# Altium footprint library rest.PCBLIB: 42 footprints (part 3 of 3)
Each footprint in its own frame and in the unit in brackets; x right, y up, seen from the top. Pads: shape width x height; smd on the part's side, far side on the other; paste and mask are expansions set on the pad; w line width, h text height; cw(c..) or ccw(c..) is an arc to the next point about the centre after c.
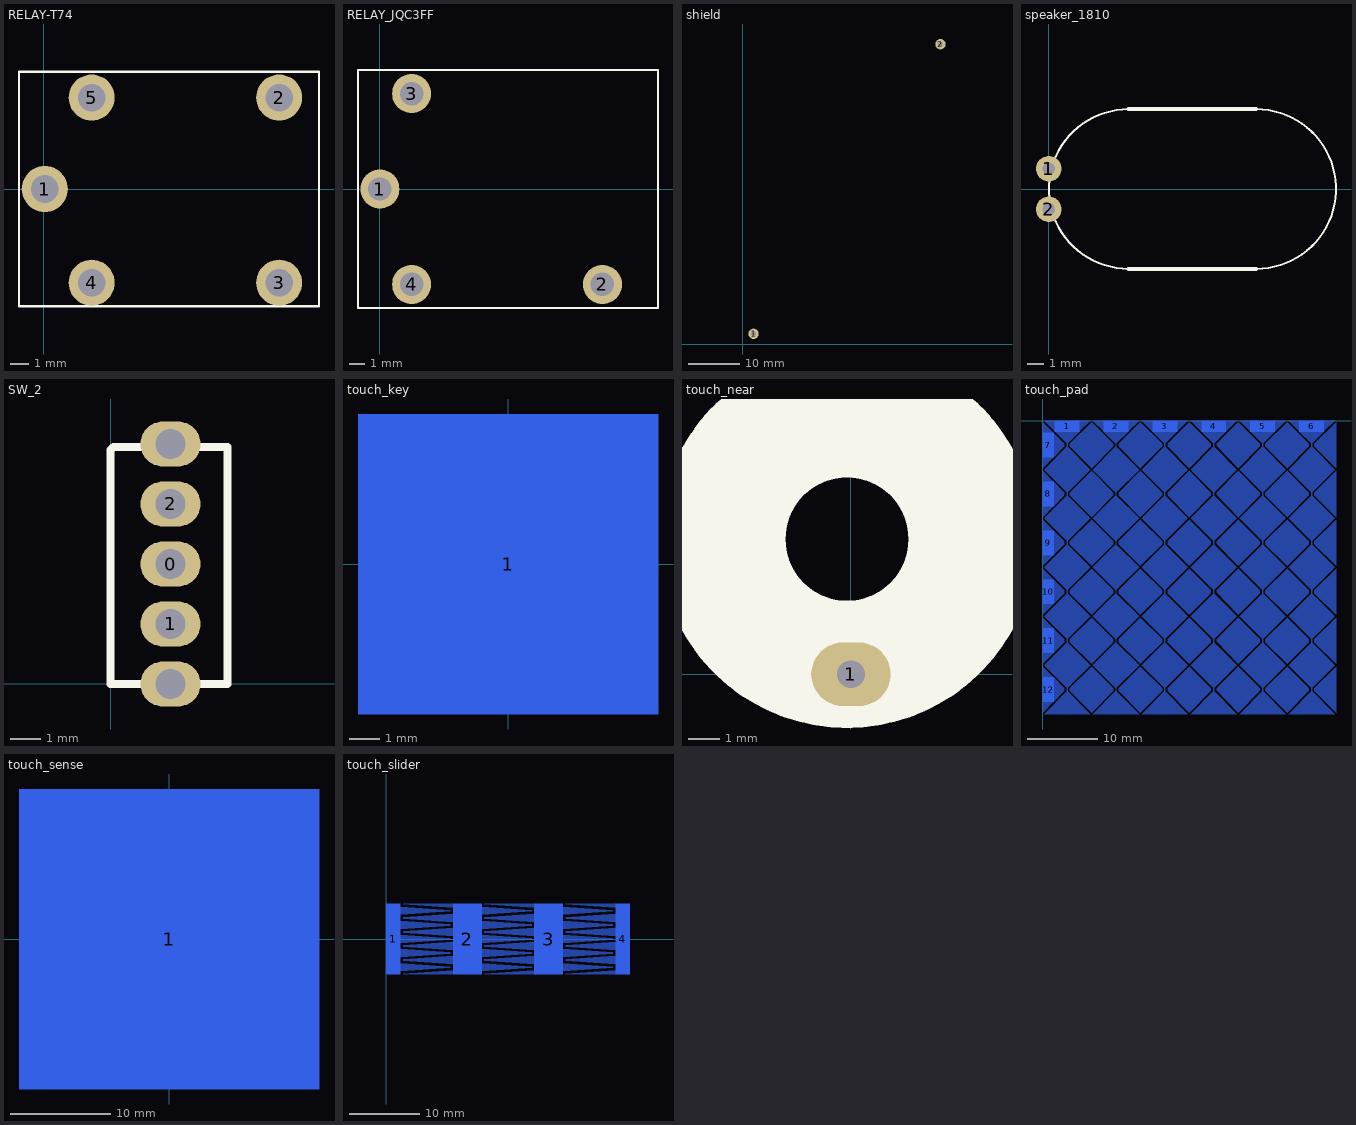
[diagram p2: the footprints below, top view; thin cyan lines are the x and y axes]

## RELAY-T74 [mm]
pads (5):
  round 2.5 hole 1.5: 1(0.051,0) 2(12.751,4.953) 3(12.751,-5.08) 4(2.591,-5.08) 5(2.591,4.953)
TopOverlay:
  lines w0.127: -1.346,-6.35 -1.346,6.35 14.91,6.35 14.91,-6.35 -1.346,-6.35

## RELAY_JQC3FF [mm]
pads (4):
  round 2.5 hole 1.5: 1(0,0) 2(14.224,-6.096) 3(2.032,6.096) 4(2.032,-6.096)
TopOverlay:
  lines w0.127: -1.397,-7.62 17.78,-7.62 17.78,7.62 -1.397,7.62 -1.397,-7.62

## shield [mm]
pads (2):
  round 2 hole 1: 1(2.032,2.032) 2(38.1,57.912)

## speaker_1810 [mm]
pads (2):
  round 1.6 hole 0.8: 1(0,1.27) 2(0,-1.27)
TopOverlay:
  lines w0.127: 5,-5 cw(c5,0) 5,5 ; 13,-5 ccw(c13,0) 13,5
  lines w0.254: 5,-5 13,-5 ; 5,5 13,5
3D body: height 6, standoff 2, extent 0,-5 18,5

## SW_2 [mm]
pads (5):
  oval 2x1.5 hole 1: 0(2,4) 1(2,2) 2(2,6) ""(2,0) ""(2,8)
TopOverlay:
  lines w0.254: 0,0 3.9,0 3.9,7.9 0.1,7.9 0,7.8 0,0

## touch_key [mm]
pads (1):
  rect 10x10 smd far side: 1(0,0)

## touch_near [mil]
pads (1):
  oval 100x80 hole 35: 1(0,0)
TopOverlay:
  circle w160: c-5,170 r157.48

## touch_pad [mm]
pads (12):
  rect 3.5x1.6 smd far side: 1(3.5,-0.8) 2(10.5,-0.8) 3(17.5,-0.8) 4(24.5,-0.8) 5(31.5,-0.8) 6(38.5,-0.8)
  rect 1.6x3.5 smd far side: 7(0.8,-3.5) 8(0.8,-10.5) 9(0.8,-17.5) 10(0.8,-24.5) 11(0.8,-31.5) 12(0.8,-38.5)
BottomLayer:
  rectangle: 3.4,-38.9 3.6,-38.1
  rectangle: 3.4,-31.9 3.6,-31.1
  rectangle: 3.4,-24.9 3.6,-24.1
  rectangle: 3.4,-17.9 3.6,-17.1
  rectangle: 3.4,-10.9 3.6,-10.1
  rectangle: 3.4,-3.9 3.6,-3.1
  rectangle: 10.4,-3.9 10.6,-3.1
  rectangle: 17.4,-3.9 17.6,-3.1
  rectangle: 24.4,-3.9 24.6,-3.1
  rectangle: 31.4,-3.9 31.6,-3.1
  rectangle: 38.4,-3.9 38.6,-3.1
  rectangle: 38.4,-10.9 38.6,-10.1
  rectangle: 38.4,-17.9 38.6,-17.1
  rectangle: 38.4,-24.9 38.6,-24.1
  rectangle: 38.4,-31.9 38.6,-31.1
  rectangle: 38.4,-38.9 38.6,-38.1
  rectangle: 31.4,-38.9 31.6,-38.1
  rectangle: 31.4,-31.9 31.6,-31.1
  rectangle: 31.4,-24.9 31.6,-24.1
  rectangle: 31.4,-17.9 31.6,-17.1
  rectangle: 31.4,-10.9 31.6,-10.1
  rectangle: 24.4,-10.9 24.6,-10.1
  rectangle: 24.4,-17.9 24.6,-17.1
  rectangle: 24.4,-24.9 24.6,-24.1
  rectangle: 24.4,-31.9 24.6,-31.1
  rectangle: 24.4,-38.9 24.6,-38.1
  rectangle: 17.4,-38.9 17.6,-38.1
  rectangle: 17.4,-31.9 17.6,-31.1
  rectangle: 17.4,-24.9 17.6,-24.1
  rectangle: 17.4,-17.9 17.6,-17.1
  rectangle: 17.4,-10.9 17.6,-10.1
  rectangle: 10.4,-10.9 10.6,-10.1
  rectangle: 10.4,-17.9 10.6,-17.1
  rectangle: 10.4,-24.9 10.6,-24.1
  rectangle: 10.4,-31.9 10.6,-31.1
  rectangle: 10.4,-38.9 10.6,-38.1
  region: 1.7,-1.5 5.3,-1.5 3.5,-3.3
  region: 5.2,-1.6 5.2,0 6.8,0
  region: 0.2,0 1.8,0 1.8,-1.6
  region: 42,-35.2 42,-41.8 38.9,-38.7 38.9,-38.3
  region: 31.9,-38.7 31.9,-38.3 35,-35.2 38.1,-38.3 38.1,-38.7 35,-41.8
  region: 24.9,-38.6 24.9,-38.3 28,-35.2 31.1,-38.3 31.1,-38.7 28,-41.8
  region: 17.9,-38.7 17.9,-38.3 21,-35.2 24.1,-38.3 24.1,-38.7 21,-41.8
  region: 10.9,-38.7 10.9,-38.3 14,-35.2 17.1,-38.3 17.1,-38.7 14,-41.8
  region: 3.9,-38.3 7,-35.2 10.1,-38.3 10.1,-38.7 7,-41.8 3.9,-38.7
  region: 42,-28.2 42,-34.8 38.9,-31.7 38.9,-31.3
  region: 31.9,-31.7 31.9,-31.3 35,-28.2 38.1,-31.3 38.1,-31.7 35,-34.8
  region: 24.9,-31.6 24.9,-31.3 28,-28.2 31.1,-31.3 31.1,-31.7 28,-34.8
  region: 17.9,-31.7 17.9,-31.3 21,-28.2 24.1,-31.3 24.1,-31.7 21,-34.8
  region: 10.9,-31.7 10.9,-31.3 14,-28.2 17.1,-31.3 17.1,-31.7 14,-34.8
  region: 3.9,-31.3 7,-28.2 10.1,-31.3 10.1,-31.7 7,-34.8 3.9,-31.7
  region: 42,-21.2 42,-27.8 38.9,-24.7 38.9,-24.3
  region: 31.9,-24.7 31.9,-24.3 35,-21.2 38.1,-24.3 38.1,-24.7 35,-27.8
  region: 24.9,-24.6 24.9,-24.3 28,-21.2 31.1,-24.3 31.1,-24.7 28,-27.8
  region: 17.9,-24.7 17.9,-24.3 21,-21.2 24.1,-24.3 24.1,-24.7 21,-27.8
  region: 10.9,-24.7 10.9,-24.3 14,-21.2 17.1,-24.3 17.1,-24.7 14,-27.8
  region: 3.9,-24.3 7,-21.2 10.1,-24.3 10.1,-24.7 7,-27.8 3.9,-24.7
  region: 42,-14.2 42,-20.8 38.9,-17.7 38.9,-17.3
  region: 31.9,-17.7 31.9,-17.3 35,-14.2 38.1,-17.3 38.1,-17.7 35,-20.8
  region: 24.9,-17.6 24.9,-17.3 28,-14.2 31.1,-17.3 31.1,-17.7 28,-20.8
  region: 17.9,-17.7 17.9,-17.3 21,-14.2 24.1,-17.3 24.1,-17.7 21,-20.8
  region: 10.9,-17.7 10.9,-17.3 14,-14.2 17.1,-17.3 17.1,-17.7 14,-20.8
  region: 3.9,-17.3 7,-14.2 10.1,-17.3 10.1,-17.7 7,-20.8 3.9,-17.7
  region: 42,-7.2 42,-13.8 38.9,-10.7 38.9,-10.3
  region: 31.9,-10.7 31.9,-10.3 35,-7.2 38.1,-10.3 38.1,-10.7 35,-13.8
  region: 24.9,-10.6 24.9,-10.3 28,-7.2 31.1,-10.3 31.1,-10.7 28,-13.8
  region: 17.9,-10.7 17.9,-10.3 21,-7.2 24.1,-10.3 24.1,-10.7 21,-13.8
  region: 10.9,-10.7 10.9,-10.3 14,-7.2 17.1,-10.3 17.1,-10.7 14,-13.8
  region: 3.9,-10.3 7,-7.2 10.1,-10.3 10.1,-10.7 7,-13.8 3.9,-10.7
  region: 41.8,-42 35.2,-42 38.5,-38.7
  region: 34.8,-42 28.2,-42 31.5,-38.7
  region: 27.8,-42 21.2,-42 24.5,-38.7
  region: 20.8,-42 14.2,-42 17.5,-38.7
  region: 13.8,-42 7.2,-42 10.5,-38.7
  region: 6.8,-42 0.2,-42 3.5,-38.7
  region: 38.5,-31.7 41.8,-35 38.5,-38.3 35.2,-35
  region: 31.5,-31.7 34.8,-35 31.5,-38.3 28.2,-35
  region: 24.5,-31.7 27.8,-35 24.5,-38.3 21.2,-35
  region: 17.5,-31.7 20.8,-35 17.5,-38.3 14.2,-35
  region: 10.5,-31.7 13.8,-35 10.5,-38.3 7.2,-35
  region: 3.5,-31.7 6.8,-35 3.5,-38.3 0.2,-35
  region: 3.5,-24.7 6.8,-28 3.5,-31.3 0.2,-28
  region: 10.5,-24.7 13.8,-28 10.5,-31.3 7.2,-28
  region: 17.5,-24.7 20.8,-28 17.5,-31.3 14.2,-28
  region: 24.5,-24.7 27.8,-28 24.5,-31.3 21.2,-28
  region: 31.5,-24.7 34.8,-28 31.5,-31.3 28.2,-28
  region: 38.5,-24.7 41.8,-28 38.5,-31.3 35.2,-28
  region: 3.5,-17.7 6.8,-21 3.5,-24.3 0.2,-21
  region: 10.5,-17.7 13.8,-21 10.5,-24.3 7.2,-21
  region: 17.5,-17.7 20.8,-21 17.5,-24.3 14.2,-21
  region: 24.5,-17.7 27.8,-21 24.5,-24.3 21.2,-21
  region: 31.5,-17.7 34.8,-21 31.5,-24.3 28.2,-21
  region: 38.5,-17.7 41.8,-21 38.5,-24.3 35.2,-21
  region: 3.5,-10.7 6.8,-14 3.5,-17.3 0.2,-14
  region: 10.5,-10.7 13.8,-14 10.5,-17.3 7.2,-14
  region: 17.5,-10.7 20.8,-14 17.5,-17.3 14.2,-14
  region: 24.5,-10.7 27.8,-14 24.5,-17.3 21.2,-14
  region: 31.5,-10.7 34.8,-14 31.5,-17.3 28.2,-14
  region: 38.5,-10.7 41.8,-14 38.5,-17.3 35.2,-14
  region: 38.5,-3.7 41.8,-7 38.5,-10.3 35.2,-7
  region: 31.5,-3.7 34.8,-7 31.5,-10.3 28.2,-7
  region: 24.5,-3.7 27.8,-7 24.5,-10.3 21.2,-7
  region: 17.5,-3.7 20.8,-7 17.5,-10.3 14.2,-7
  region: 10.5,-3.7 13.8,-7 10.5,-10.3 7.2,-7
  region: 3.5,-3.7 6.8,-7 3.5,-10.3 0.2,-7
  region: 3.9,-3.3 7,-0.2 10.1,-3.3 10.1,-3.7 7,-6.8 3.9,-3.7
  region: 10.9,-3.7 10.9,-3.3 14,-0.2 17.1,-3.3 17.1,-3.7 14,-6.8
  region: 17.9,-3.7 17.9,-3.3 21,-0.2 24.1,-3.3 24.1,-3.7 21,-6.8
  region: 24.9,-3.6 24.9,-3.3 28,-0.2 31.1,-3.3 31.1,-3.7 28,-6.8
  region: 31.9,-3.7 31.9,-3.3 35,-0.2 38.1,-3.3 38.1,-3.7 35,-6.8
  region: 42,-0.2 42,-6.8 38.9,-3.7 38.9,-3.3
  region: 7.2,0 8.8,0 8.8,-1.6
  region: 12.2,-1.6 12.2,0 13.8,0
  region: 8.7,-1.5 12.3,-1.5 10.5,-3.3
  region: 14.2,0 15.8,0 15.8,-1.6
  region: 19.2,-1.6 19.2,0 20.8,0
  region: 15.7,-1.5 19.3,-1.5 17.5,-3.3
  region: 21.2,0 22.8,0 22.8,-1.6
  region: 26.2,-1.6 26.2,0 27.8,0
  region: 22.7,-1.5 26.3,-1.5 24.5,-3.3
  region: 28.2,0 29.8,0 29.8,-1.6
  region: 33.2,-1.6 33.2,0 34.8,0
  region: 29.7,-1.5 33.3,-1.5 31.5,-3.3
  region: 35.2,0 36.8,0 36.8,-1.6
  region: 40.2,-1.6 40.2,0 41.8,0
  region: 36.7,-1.5 40.3,-1.5 38.5,-3.3
  region: 0,-41.8 1.6,-40.2 0,-40.2
  region: 1.6,-36.8 0,-35.2 0,-36.8
  region: 1.5,-40.3 3.1,-38.7 3.1,-38.3 1.5,-36.7
  region: 1.5,-5.3 3.1,-3.7 3.1,-3.3 1.5,-1.7
  region: 1.6,-1.8 0,-0.2 0,-1.8
  region: 0,-6.8 1.6,-5.2 0,-5.2
  region: 1.5,-12.3 3.1,-10.7 3.1,-10.3 1.5,-8.7
  region: 1.6,-8.8 0,-7.2 0,-8.8
  region: 0,-13.8 1.6,-12.2 0,-12.2
  region: 1.5,-19.3 3.1,-17.7 3.1,-17.3 1.5,-15.7
  region: 1.6,-15.8 0,-14.2 0,-15.8
  region: 0,-20.8 1.6,-19.2 0,-19.2
  region: 1.5,-26.3 3.1,-24.7 3.1,-24.3 1.5,-22.7
  region: 1.6,-22.8 0,-21.2 0,-22.8
  region: 0,-27.8 1.6,-26.2 0,-26.2
  region: 1.5,-33.3 3.1,-31.7 3.1,-31.3 1.5,-29.7
  region: 1.6,-29.8 0,-28.2 0,-29.8
  region: 0,-34.8 1.6,-33.2 0,-33.2

## touch_sense [mm]
pads (1):
  rect 30x30 smd far side: 1(0,0)

## touch_slider [mm]
pads (4):
  rect 2x10 smd far side: 1(1,0) 4(33.5,0)
  rect 4x10 smd far side: 2(11.5,0) 3(23,0)
BottomLayer:
  region: 25,2.6 32.1,2.1 32.1,1.9 25,1.4
  region: 32.5,3.6 25.4,3.1 25.4,2.9 32.5,2.4
  region: 32.5,5 25.4,5 25.4,4.9 32.5,4.4
  region: 25,4.6 32.1,4.1 32.1,3.9 25,3.4
  region: 25,0.6 32.1,0.1 32.1,-0.1 25,-0.6
  region: 25,-1.4 32.1,-1.9 32.1,-2.1 25,-2.6
  region: 25,-3.4 32.1,-3.9 32.1,-4.1 25,-4.6
  region: 32.5,-4.4 25.4,-4.9 25.4,-5 32.5,-5
  region: 32.5,-2.4 25.4,-2.9 25.4,-3.1 32.5,-3.6
  region: 32.5,-0.4 25.4,-0.9 25.4,-1.1 32.5,-1.6
  region: 32.5,1.6 25.4,1.1 25.4,0.9 32.5,0.4
  region: 13.5,2.6 20.6,2.1 20.6,1.9 13.5,1.4
  region: 21,3.6 13.9,3.1 13.9,2.9 21,2.4
  region: 21,5 13.9,5 13.9,4.9 21,4.4
  region: 13.5,4.6 20.6,4.1 20.6,3.9 13.5,3.4
  region: 13.5,0.6 20.6,0.1 20.6,-0.1 13.5,-0.6
  region: 13.5,-1.4 20.6,-1.9 20.6,-2.1 13.5,-2.6
  region: 13.5,-3.4 20.6,-3.9 20.6,-4.1 13.5,-4.6
  region: 21,-4.4 13.9,-4.9 13.9,-5 21,-5
  region: 21,-2.4 13.9,-2.9 13.9,-3.1 21,-3.6
  region: 21,-0.4 13.9,-0.9 13.9,-1.1 21,-1.6
  region: 21,1.6 13.9,1.1 13.9,0.9 21,0.4
  region: 9.5,1.6 2.4,1.1 2.4,0.9 9.5,0.4
  region: 9.5,-0.4 2.4,-0.9 2.4,-1.1 9.5,-1.6
  region: 9.5,-2.4 2.4,-2.9 2.4,-3.1 9.5,-3.6
  region: 9.5,-4.4 2.4,-4.9 2.4,-5 9.5,-5
  region: 2,-3.4 9.1,-3.9 9.1,-4.1 2,-4.6
  region: 2,-1.4 9.1,-1.9 9.1,-2.1 2,-2.6
  region: 2,0.6 9.1,0.1 9.1,-0.1 2,-0.6
  region: 2,4.6 9.1,4.1 9.1,3.9 2,3.4
  region: 9.5,5 2.4,5 2.4,4.9 9.5,4.4
  region: 9.5,3.6 2.4,3.1 2.4,2.9 9.5,2.4
  region: 2,2.6 9.1,2.1 9.1,1.9 2,1.4